# Altium schematic symbol library CN4x2.Schlib: 1 symbol
Pins are listed as number, name and electrical type; pins without a type are passive.

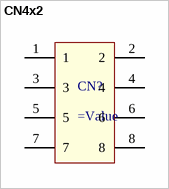
[diagram p0: symbol CN4x2]

## CN4x2
designator CN?
=Description
pins: 1, 2, 3, 4, 5, 6, 7, 8